# Altium footprint library Soberton Inc Microphones.PcbLib: 1 footprints
Each footprint in its own frame and in the unit in brackets; x right, y up, seen from the top. Pads: shape width x height; smd on the part's side, far side on the other; paste and mask are expansions set on the pad; w line width, h text height; cw(c..) or ccw(c..) is an arc to the next point about the centre after c.
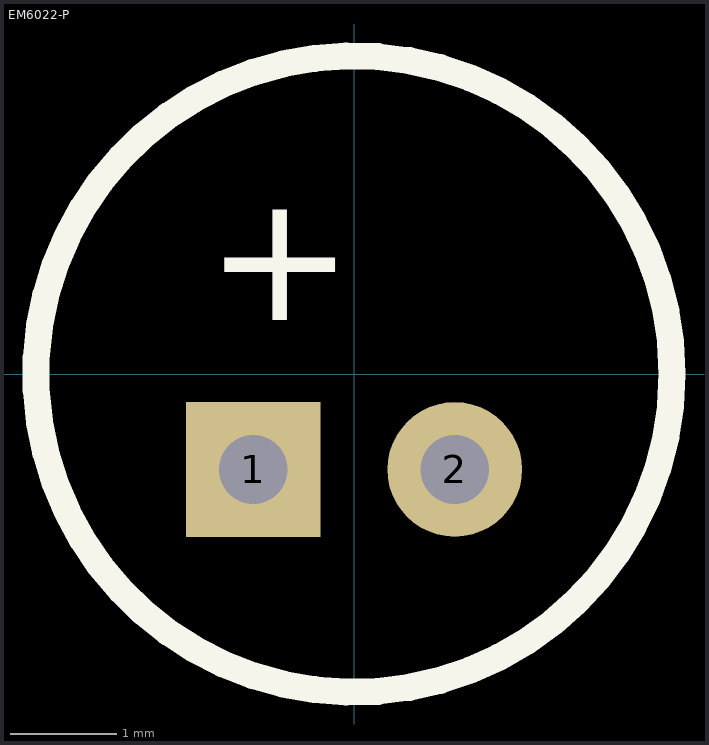
[diagram p0: the footprint, top view; thin cyan lines are the x and y axes]

## EM6022-P [mm] "Microphone, Thru-Hole; 2 Leads; Pin Spacing 1.9mm; Diameter 6.0mm"
height 2.2
pads (2):
  rect 1.27x1.27 hole 0.65: 1(-0.95,-0.9)
  round 1.27 hole 0.65: 2(0.95,-0.9)
Top Overlay:
  circle w0.254: c0,0 r3
  text "+" at -1.397,0.508 h1.22